# Altium footprint library quartz.PcbLib: 12 footprints
Each footprint in its own frame and in the unit in brackets; x right, y up, seen from the top. Pads: shape width x height; smd on the part's side, far side on the other; paste and mask are expansions set on the pad; w line width, h text height; cw(c..) or ccw(c..) is an arc to the next point about the centre after c.
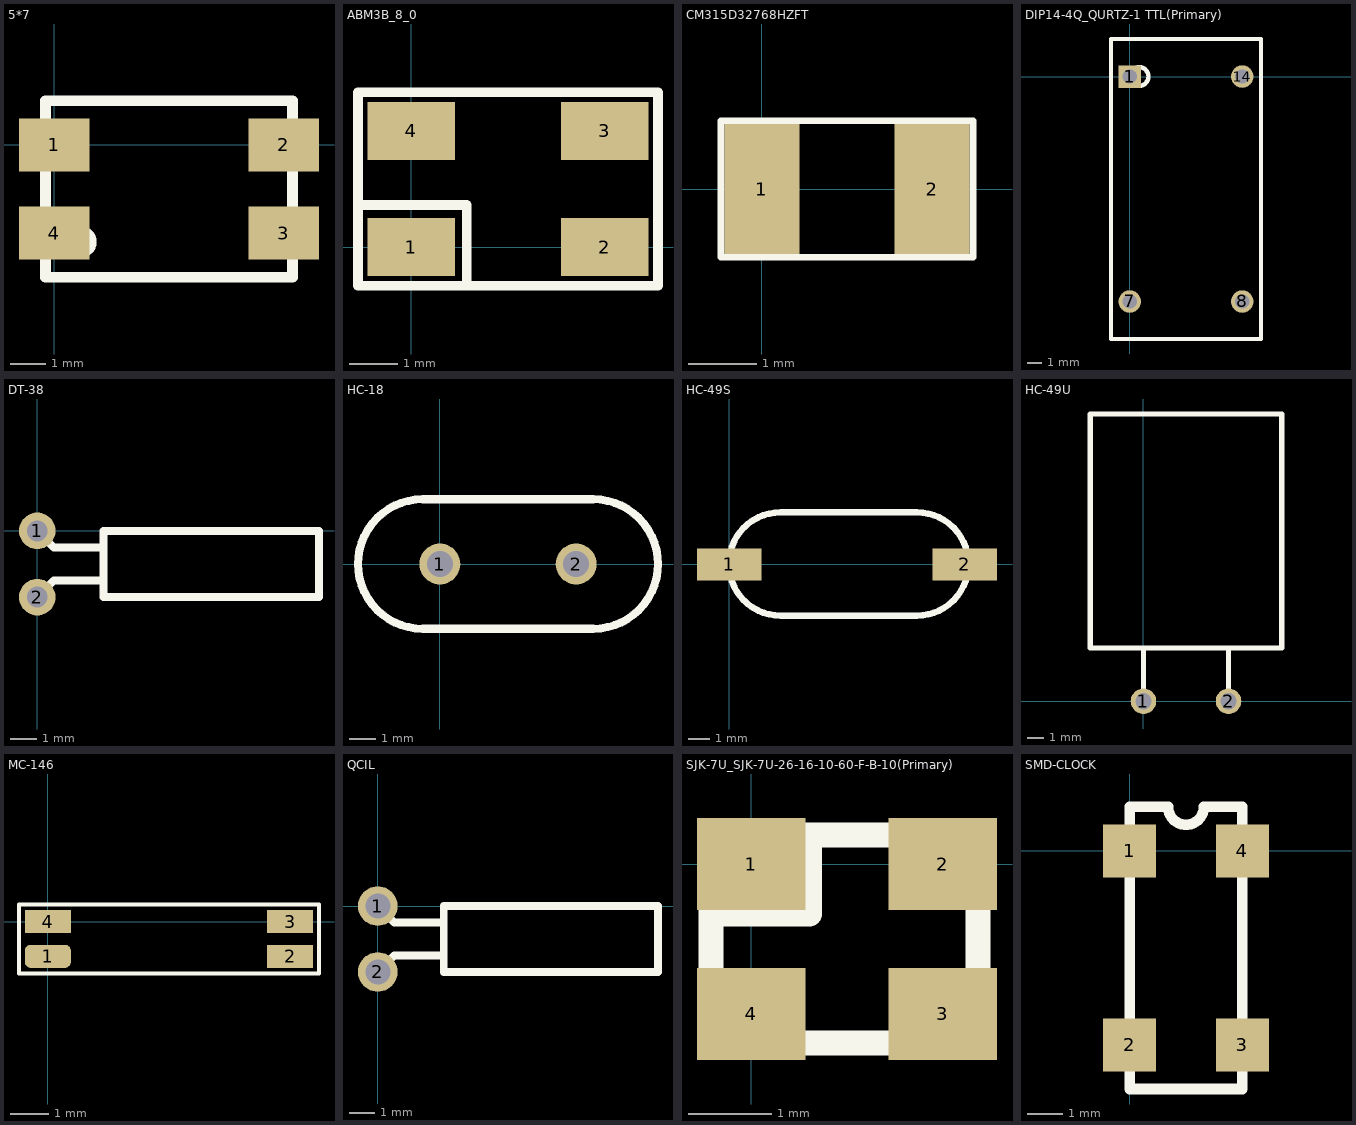
[diagram p0: the footprints below, top view; thin cyan lines are the x and y axes]

## 5*7 [mm]
pads (4):
  rect 2x1.5 smd: 1(0,0) 2(6.5,0) 3(6.5,-2.5) 4(0,-2.5)
Top Overlay:
  circle w0.3: c0.75,-2.75 r0.3
  lines w0.3: -0.25,-3.75 6.75,-3.75 6.75,1.25 -0.25,1.25 -0.25,-3.75

## ABM3B_8_0 [mm]
pads (4):
  rect 1.8x1.2 smd: 1(0,0) 2(4,0) 3(4,2.4) 4(0,2.4)
Top Overlay:
  lines w0.2: -1.1,0.869 1.149,0.869 1.149,-0.8 ; -1.1,-0.8 5.1,-0.8 5.1,3.2 -1.1,3.2 -1.1,-0.8
3D body "User Library-ABM3B.STEP": height 1.15, standoff 0.05, extent -0.468,-0.426 4.532,2.774

## CM315D32768HZFT [mm]
pads (2):
  rect 1.1x1.9 smd: 1(0,0) 2(2.5,0)
Top Overlay:
  lines w0.1: -0.6,-1 3.1,-1 3.1,1 -0.6,1 -0.6,-1
3D body: height 0.9, standoff 0.02, extent -0.35,-0.7 2.85,0.7

## DIP14-4Q_QURTZ-1 TTL(Primary) [mil]
pads (4):
  rect 60x60 hole 38: 1(0,0)
  round 60 hole 38: 7(0,-600) 8(300,-600) 14(300,0)
Top Overlay:
  circle w11.81: c25,0 r25
  lines w11.81: -50,-700 -50,100 350,100 350,-700 -50,-700

## DT-38 [mm]
pads (2):
  round 1.4 hole 0.8: 1(0,0) 2(0,-2.54)
Top Overlay:
  lines w0.3: 0,-2.54 0.635,-1.905 2.54,-1.905 ; 0,0 0.635,-0.635 2.54,-0.635 ; 2.54,-2.54 2.54,0 10.795,0 10.795,-2.54 2.54,-2.54

## HC-18 [mil]
pads (2):
  round 60 hole 38: 1(0,0) 2(200,0)
Top Overlay:
  lines w11.81: -25,-95 cw(c-25,0) -25,95 225,95 cw(c225,0) 225,-95 -25,-95

## HC-49S [mm]
pads (2):
  rect 3x1.5 smd: 1(0,0) 2(11,0)
Top Overlay:
  lines w0.3: 2.405,-2.393 cw(c2.405,0.02) 2.405,2.433 8.755,2.433 cw(c8.755,0.02) 8.755,-2.393 2.405,-2.393
3D body "User Library-HC49_SMD.step": height 5.18, standoff 0, extent -0.562,-2.224 11.738,2.276

## HC-49U [mil]
pads (2):
  round 60 hole 38: 1(0,0) 2(200,0)
Top Overlay:
  lines w11.81: 0,0 0,125 ; 200,0 200,125 ; -125,125 325,125 325,675 -125,675 -125,125

## MC-146 [mm]
pads (4):
  rrect50% 1.2x0.6 smd: 1(0,-0.9)
  rect 1.2x0.6 smd: 2(6.3,-0.9) 3(6.3,0) 4(0,0)
Top Overlay:
  lines w0.1: -0.75,-1.35 -0.75,0.45 7.05,0.45 7.05,-1.35 -0.75,-1.35
3D body "User Library-CSYTAL-MC146.step": height 1.4, standoff 0, extent -0.3,-1.2 6.6,0.3

## QCIL [mil]
pads (2):
  round 60 hole 38: 1(0,0) 2(0,-100)
Top Overlay:
  lines w11.81: 0,-100 25,-75 100,-75 ; 0,0 25,-25 100,-25 ; 100,-100 425,-100 425,0 100,0 100,-100

## SJK-7U_SJK-7U-26-16-10-60-F-B-10(Primary) [mm]
pads (4):
  rect 1.3x1.1 smd: 1(0,0) 2(2.3,0) 3(2.3,-1.8) 4(0,-1.8)
Top Overlay:
  lines w0.3: -0.45,-0.6 0.7,-0.6 0.7,0.35 ; -0.48,-2.15 -0.48,0.35 2.72,0.35 2.72,-2.15 -0.48,-2.15
3D body "User Library-CTS.SLDPRT": height 0.77, standoff 0, extent -0.457,-2.139 2.743,0.361

## SMD-CLOCK [mm]
pads (4):
  rect 1.5x1.5 smd: 1(0,0) 2(0,-5.5) 3(3.2,-5.5) 4(3.2,0)
Top Overlay:
  lines w0.3: 0,-6.75 3.2,-6.75 3.2,1.25 2.108,1.25 cw(c1.6,1.25) 1.092,1.25 0,1.25 0,-6.75
3D body "User Library-KX-327S.SLDPRT": height 2.5, standoff 0, extent -0.23,-6.774 3.47,1.226